# Altium integrated library Capacitor_SMD.IntLib: 1 symbol
Pins are listed as number, name and electrical type; pins without a type are passive.

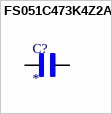
[diagram p0: symbol FS051C473K4Z2A]

## FS051C473K4Z2A
designator C?
Ceramic Capacitor; MF: AVX; MP: FS051C473K4Z2A; SnapEDA_Link: https://www.snapeda.com/parts/FS051C473K4Z2A/AVX/view-part/?ref=snap; Package: 0805-2 AVX; Value: *; Check_prices: https://www.snapeda.com/parts/FS051C473K4Z2A/AVX/view-part/?ref=eda
footprint CAPC2012X140N
pins: 1, 2